# EAGLE library part *4017 (library digital)
xx4017: Decade counter / divider With 10 decoded outputs
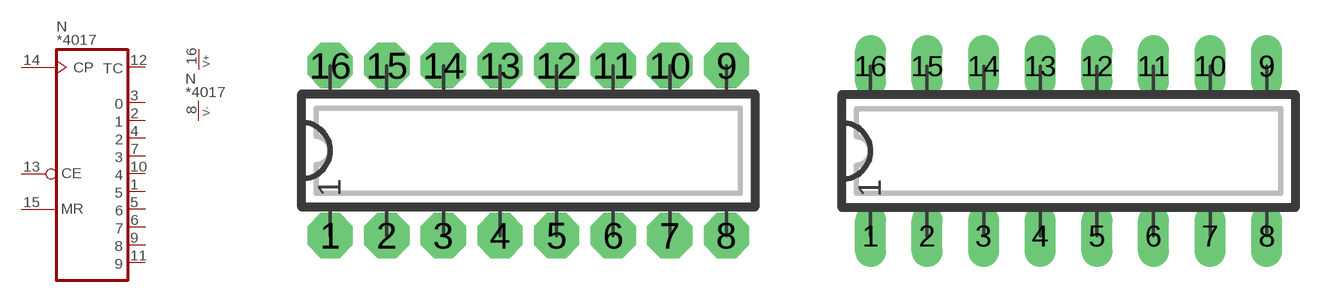
[diagram p8: symbol with the pads of DIP16N; footprints DIP16N, DIP16L]

Designator prefix N; gates  =COUNT_3 P=V+-

## 4017N, 74HC4017N, 74HCT4017N  [DIP16N]
1   :5  out
2   :1  out
3   :0  out
4   :2  out
5   :6  out
6   :7  out
7   :3  out
8  P:V-  pwr
9   :8  out
10   :4  out
11   :9  out
12   :TC  out
13   :CE  in
14   :CP  in
15   :MR  in
16  P:V+  pwr

## 4017, 74HC4017, 74HCT4017  [DIP16L]
Pads as for DIP16N

## 4017L, 74HC4017L, 74HCT4017L  [DIP16L]
Pads as for DIP16N

## 4017R, 74HC4017R, 74HCT4017R  [DIP16R]
Pads as for DIP16N

## 4017S, 74HC4017S, 74HCT4017S  [SO16]
Pads as for DIP16N

## Footprint DIP16N (pad centres in mm)
DIP-16 Standard IC package, 16 pins
drill 0.813 pad 2.032 octagon: 1 0,0; 2 2.54,0; 3 5.08,0; 4 7.62,0; 5 10.16,0; 6 12.7,0; 7 15.24,0; 8 17.78,0; 9 17.78,7.62; 10 15.24,7.62; 11 12.7,7.62; 12 10.16,7.62; 13 7.62,7.62; 14 5.08,7.62; 15 2.54,7.62; 16 0,7.62

## Footprint DIP16L (pad centres in mm)
DIP-16, long pads Standard IC package, 16 pins
drill 0.813 pad 1.397 long: 1 0,0; 2 2.54,0; 3 5.08,0; 4 7.62,0; 5 10.16,0; 6 12.7,0; 7 15.24,0; 8 17.78,0; 9 17.78,7.62; 10 15.24,7.62; 11 12.7,7.62; 12 10.16,7.62; 13 7.62,7.62; 14 5.08,7.62; 15 2.54,7.62; 16 0,7.62

## Footprint DIP16R (pad centres in mm)
DIP-16, reduced pads Standard IC package, 16 pins
drill 0.813 pad 1.397 square: 1 0,0; 2 2.54,0; 3 5.08,0; 4 7.62,0; 5 10.16,0; 6 12.7,0; 7 15.24,0; 8 17.78,0; 9 17.78,7.62; 10 15.24,7.62; 11 12.7,7.62; 12 10.16,7.62; 13 7.62,7.62; 14 5.08,7.62; 15 2.54,7.62; 16 0,7.62

## Footprint SO16 (pad centres in mm)
SO-16, SMD SOIC IC package, 16 pins
smd 0.635 x 1.778: 1 -4.445,-2.857; 2 -3.175,-2.857; 3 -1.905,-2.857; 4 -0.635,-2.857; 5 0.635,-2.857; 6 1.905,-2.857; 7 3.175,-2.857; 8 4.445,-2.857; 9 4.445,2.857; 10 3.175,2.857; 11 1.905,2.857; 12 0.635,2.857; 13 -0.635,2.857; 14 -1.905,2.857; 15 -3.175,2.857; 16 -4.445,2.857